# Altium footprint library DCN_TI.PcbLib: 1 footprints
Each footprint in its own frame and in the unit in brackets; x right, y up, seen from the top. Pads: shape width x height; smd on the part's side, far side on the other; paste and mask are expansions set on the pad; w line width, h text height; cw(c..) or ccw(c..) is an arc to the next point about the centre after c.
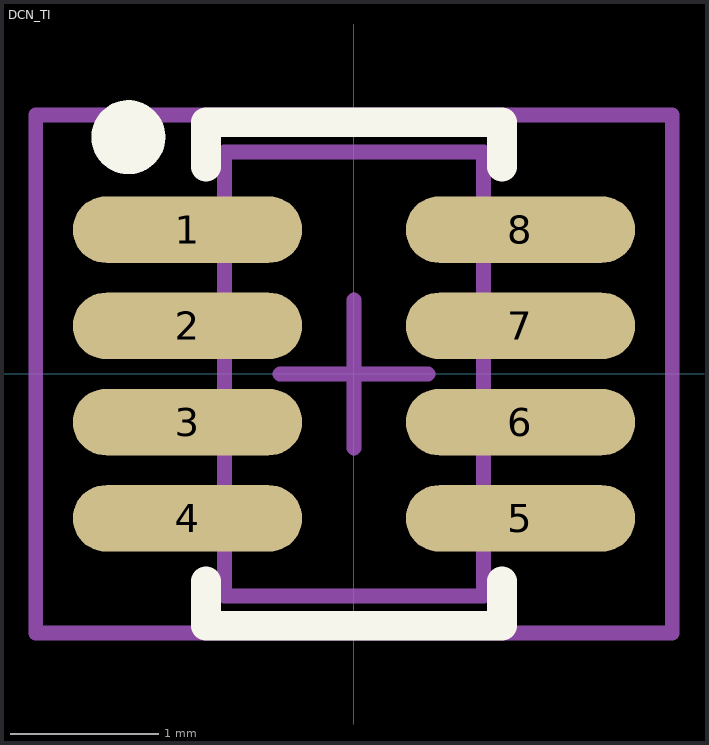
[diagram p0: the footprint, top view; thin cyan lines are the x and y axes]

## DCN_TI [mm]
height 1.45
pads (8):
  oval 1.55x0.45 smd mask+0.08: 1(-1.125,0.975) 2(-1.125,0.325) 3(-1.125,-0.325) 4(-1.125,-0.975) 5(1.125,-0.975) 6(1.125,-0.325) 7(1.125,0.325) 8(1.125,0.975)
Top Overlay:
  circle w0.25: c-1.525,1.6 r0.125
  lines w0.2: -1,-1.4 -1,-1.7 1,-1.7 1,-1.4 ; -1,1.4 -1,1.7 1,1.7 1,1.4
Mechanical 13:
  lines w0.1: -0.875,-1.5 -0.875,1.5 0.875,1.5 0.875,-1.5 -0.875,-1.5
Mechanical 15:
  lines w0.1: -0.5,0 0.5,0 ; 0,-0.5 0,0.5 ; -2.15,-1.75 -2.15,1.75 2.15,1.75 2.15,-1.75 -2.15,-1.75
3D body: height 1.2, standoff 0, extent -1.4,-1.47 1.4,1.47